# Altium footprint library Battery_Holder.PcbLib: 1 footprints
Each footprint in its own frame and in the unit in brackets; x right, y up, seen from the top. Pads: shape width x height; smd on the part's side, far side on the other; paste and mask are expansions set on the pad; w line width, h text height; cw(c..) or ccw(c..) is an arc to the next point about the centre after c.
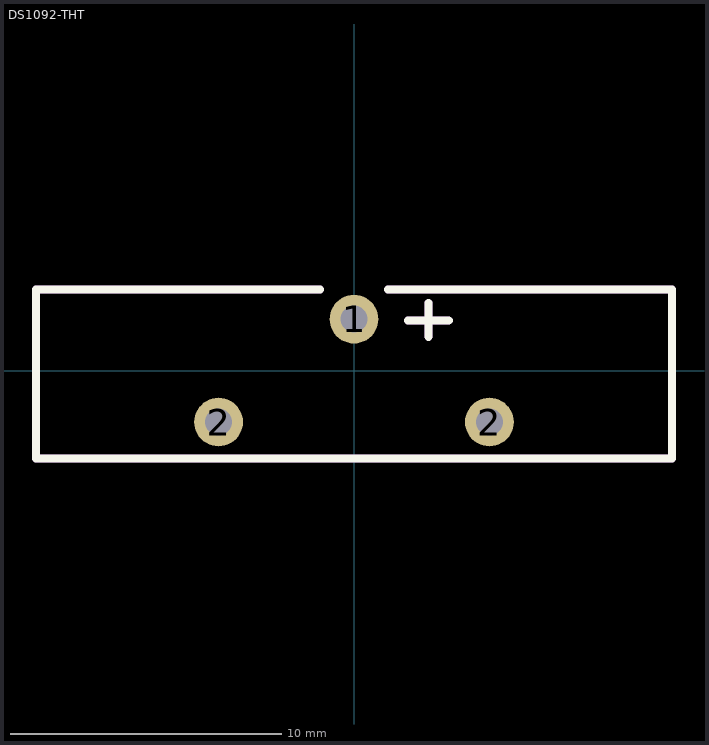
[diagram p0: the footprint, top view; thin cyan lines are the x and y axes]

## DS1092-THT [mm] "Confly DS1092 THT Holder"
pads (3):
  round 1.8 hole 1: 1(0,1.9) 2(-5,-1.9) 2(5,-1.9)
Top Overlay:
  lines w0.3: -1.25,3 -11.75,3 -11.75,-3.25 11.75,-3.25 11.75,3 1.25,3 ; 2,1.85 3.5,1.85 ; 2.75,1.25 2.75,2.5
Mechanical 13:
  lines w0.3: -1.25,3 -11.75,3 -11.75,-3.25 11.75,-3.25 11.75,3 1.25,3 ; 2,1.85 3.5,1.85 ; 2.75,1.25 2.75,2.5
  text ".designator" at -3.276,-1.471 h1.5
3D body "cr2032 vertical battery holder.step": height 18.51, standoff -3.99, extent -11.5,-3.05 11.5,2.75